# EAGLE library part LL1560 (library lundahl)
LL1560
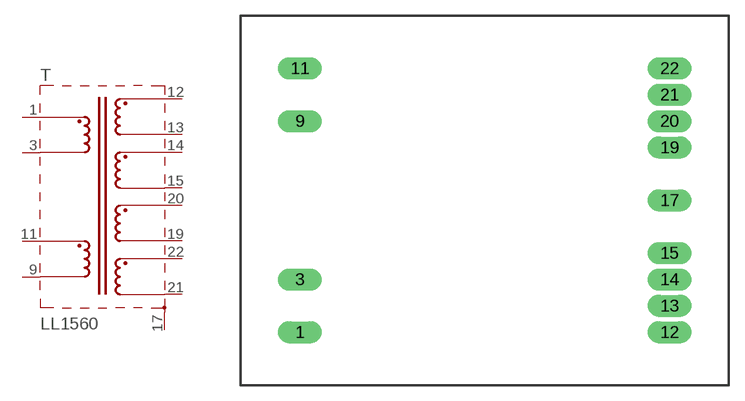
[diagram p15: symbol with the pads of LL1560; footprint LL1560]

Designator prefix T

## LL1560  [LL1560]
1  1  pas
3  3  pas
9  9  pas
11  11  pas
12  12  pas
13  13  pas
14  14  pas
15  15  pas
17  17  pas
19  19  pas
20  20  pas
21  21  pas
22  22  pas

## Footprint LL1560 (pad centres in mm)
LL1560
drill 1.422 pad 1.905 long: 1 -17.78,-12.7; 3 -17.78,-7.62; 9 -17.78,7.62; 11 -17.78,12.7; 12 17.78,-12.7; 13 17.78,-10.16; 14 17.78,-7.62; 15 17.78,-5.08; 17 17.78,0; 19 17.78,5.08; 20 17.78,7.62; 21 17.78,10.16; 22 17.78,12.7